# EAGLE library part MAX17225 (library boost-converter)
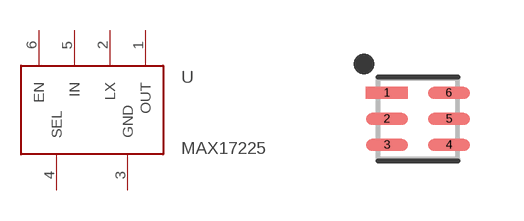
[diagram p0: symbol with the pads of DFN-6-2X2; footprint DFN-6-2X2]

Designator prefix -

## MAX17225 (IPEAK: 1A; VARIANT: _ALT+)  [DFN-6-2X2]
1  OUT
2  LX
3  GND
4  SEL
5  IN
6  EN

## Footprint DFN-6-2X2 (pad centres in mm)
6-Pin Dual-Flat No-Lead (DFN) (2.0 x 2.0 mm) Datasheet <http://www.mouser.com/ds/2/588/ams_sl2560-e58-488842.pdf> Specifications: Pin Count: 6 Dimensions: 2.0 x 2.0 x 0.65 mm Pitch: 0.65 mm Devices Using: TSL2561
smd 1.05 x 0.3: 1 -0.775,0.65; 2 -0.775,0; 3 -0.775,-0.65; 4 0.775,-0.65; 5 0.775,0; 6 0.775,0.65